# Altium integrated library XC6SLX9.IntLib: 1 symbol
Pins are listed as number, name and electrical type; pins without a type are passive.

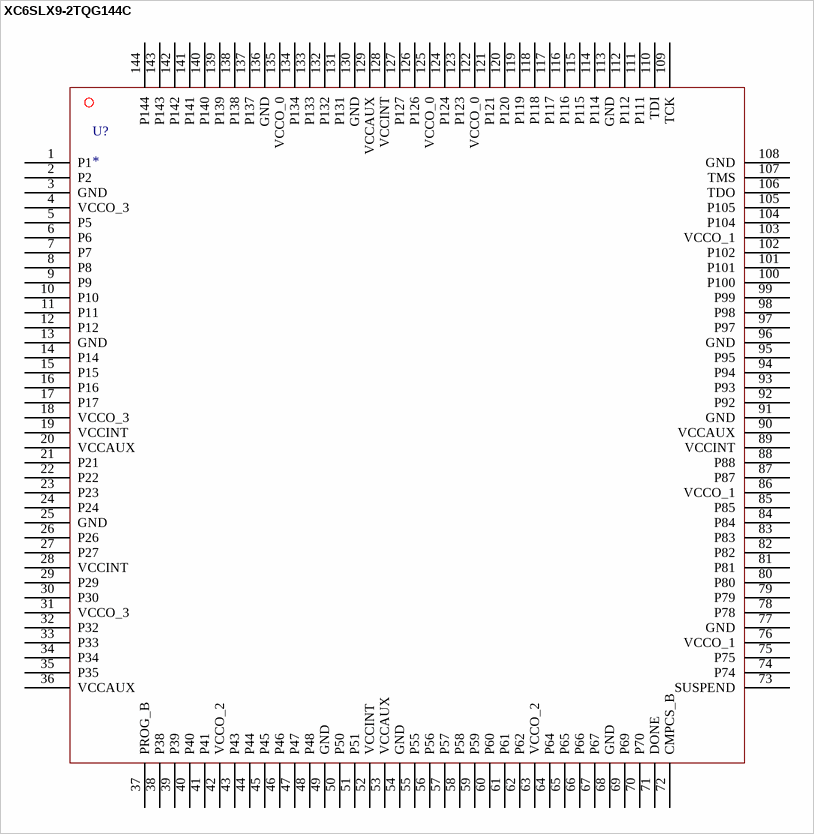
[diagram p0: symbol XC6SLX9-2TQG144C]

## XC6SLX9-2TQG144C
designator U?
footprint XC6SLX9-2TQG144C(TSQFP50P2200X2200X160-144N) (TSQFP, 144-Leads, Body 20.00x20.00mm, Pitch 0.50mm, IPC Medium Density)
pins: 1 P1, 2 P2, 3 GND, 4 VCCO_3, 5 P5, 6 P6, 7 P7, 8 P8, 9 P9, 10 P10, 11 P11, 12 P12, 13 GND, 14 P14, 15 P15, 16 P16, 17 P17, 18 VCCO_3, 19 VCCINT, 20 VCCAUX, 21 P21, 22 P22, 23 P23, 24 P24, 25 GND, 26 P26, 27 P27, 28 VCCINT, 29 P29, 30 P30, 31 VCCO_3, 32 P32, 33 P33, 34 P34, 35 P35, 36 VCCAUX, 37 PROG_B, 38 P38, 39 P39, 40 P40, 41 P41, 42 VCCO_2, 43 P43, 44 P44, 45 P45, 46 P46, 47 P47, 48 P48, 49 GND, 50 P50, 51 P51, 52 VCCINT, 53 VCCAUX, 54 GND, 55 P55, 56 P56, 57 P57, 58 P58, 59 P59, 60 P60, 61 P61, 62 P62, 63 VCCO_2, 64 P64, 65 P65, 66 P66, 67 P67, 68 GND, 69 P69, 70 P70, 71 DONE, 72 CMPCS_B, 73 SUSPEND, 74 P74, 75 P75, 76 VCCO_1, 77 GND, 78 P78, 79 P79, 80 P80, 81 P81, 82 P82, 83 P83, 84 P84, 85 P85, 86 VCCO_1, 87 P87, 88 P88, 89 VCCINT, 90 VCCAUX, 91 GND, 92 P92, 93 P93, 94 P94, 95 P95, 96 GND, 97 P97, 98 P98, 99 P99, 100 P100, 101 P101, 102 P102, 103 VCCO_1, 104 P104, 105 P105, 106 TDO, 107 TMS, 108 GND, 109 TCK, 110 TDI, 111 P111, 112 P112, 113 GND, 114 P114, 115 P115, 116 P116, 117 P117, 118 P118, 119 P119, 120 P120, 121 P121, 122 VCCO_0, 123 P123, 124 P124, 125 VCCO_0, 126 P126, 127 P127, 128 VCCINT, 129 VCCAUX, 130 GND, 131 P131, 132 P132, 133 P133, 134 P134, 135 VCCO_0, 136 GND, 137 P137, 138 P138, 139 P139, 140 P140, 141 P141, 142 P142, 143 P143, 144 P144